# EAGLE library part RPI-ZERO (library RPI-Zero)
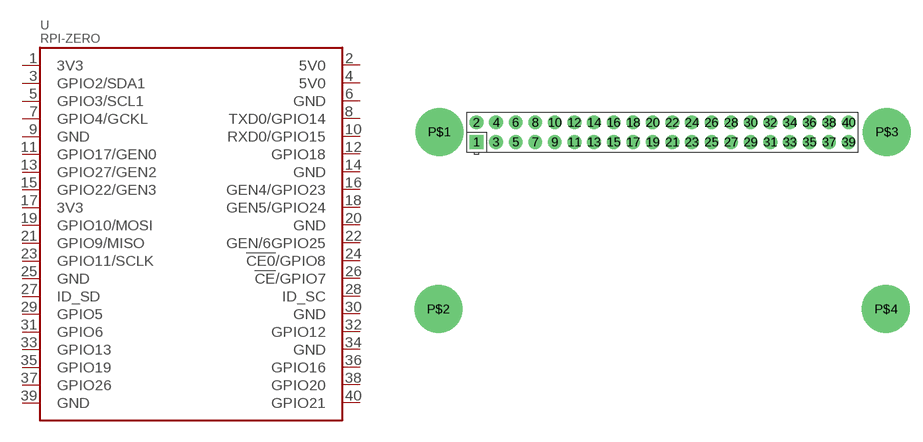
[diagram p0: symbol with the pads of RASP_PI_ZERO_BOARD_FULL; footprint RASP_PI_ZERO_BOARD_FULL]

Designator prefix -

## RPI-ZERO  [RASP_PI_ZERO_BOARD_FULL]
1  3V3  sup
2  5V0  sup
3  GPIO2/SDA1
4  5V0  sup
5  GPIO3/SCL1
6  GND  sup
7  GPIO4/GCKL
8  TXD0/GPIO14
9  GND  sup
10  RXD0/GPIO15
11  GPIO17/GEN0
12  GPIO18
13  GPIO27/GEN2
14  GND  sup
15  GPIO22/GEN3
16  GEN4/GPIO23
17  3V3  sup
18  GEN5/GPIO24
19  GPIO10/MOSI
20  GND  sup
21  GPIO9/MISO
22  GEN/6GPIO25
23  GPIO11/SCLK
24  !CE0!/GPIO8
25  GND  sup
26  !CE!/GPIO7
27  ID_SD
28  ID_SC
29  GPIO5
30  GND  sup
31  GPIO6
32  GPIO12
33  GPIO13
34  GND  sup
35  GPIO19
36  GPIO16
37  GPIO26
38  GPIO20
39  GND  sup
40  GPIO21

## Footprint RASP_PI_ZERO_BOARD_FULL (pad centres in mm)
Raspberry Pi board model B+, full outline with position of big connectors & drill holes
drill 1 pad 1.778 square: 1 10.148,25.357
drill 1 pad 1.778: 2 10.148,27.897; 3 12.688,25.357; 4 12.688,27.897; 5 15.228,25.357; 6 15.228,27.897; 7 17.768,25.357; 8 17.768,27.897; 9 20.308,25.357; 10 20.308,27.897; 11 22.848,25.357; 12 22.848,27.897; 13 25.388,25.357; 14 25.388,27.897; 15 27.928,25.357; 16 27.928,27.897; 17 30.468,25.357; 18 30.468,27.897; 19 33.008,25.357; 20 33.008,27.897; 21 35.548,25.357; 22 35.548,27.897; 23 38.088,25.357; 24 38.088,27.897; 25 40.628,25.357; 26 40.628,27.897; 27 43.168,25.357; 28 43.168,27.897; 29 45.708,25.357; 30 45.708,27.897; 31 48.248,25.357; 32 48.248,27.897; 33 50.788,25.357; 34 50.788,27.897; 35 53.328,25.357; 36 53.328,27.897; 37 55.868,25.357; 38 55.868,27.897; 39 58.408,25.357; 40 58.408,27.897
drill 3.048 pad 6.223: P$1 5.334,26.67; P$2 5.207,3.683; P$3 63.373,26.67; P$4 63.246,3.683